# Altium footprint library lib_keystone.PcbLib: 1 footprints
Each footprint in its own frame and in the unit in brackets; x right, y up, seen from the top. Pads: shape width x height; smd on the part's side, far side on the other; paste and mask are expansions set on the pad; w line width, h text height; cw(c..) or ccw(c..) is an arc to the next point about the centre after c.
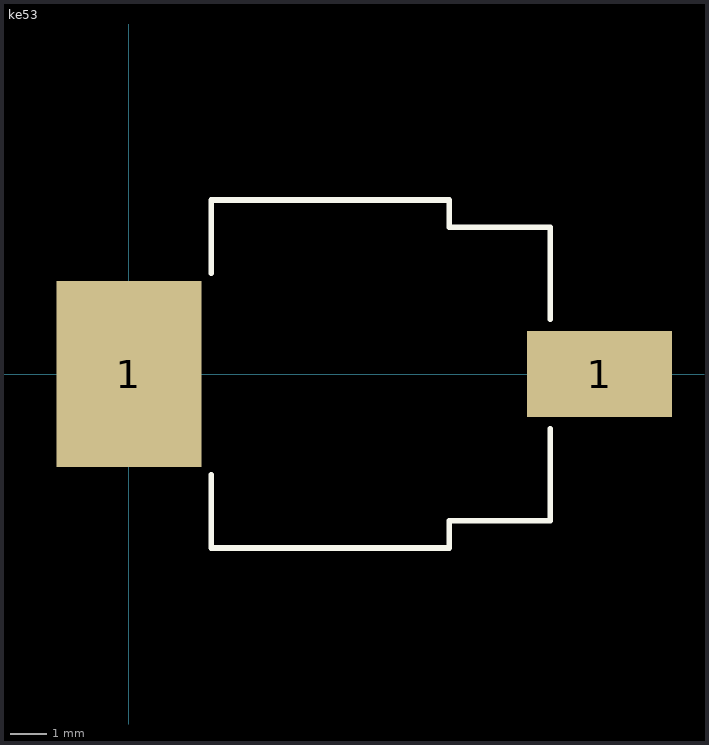
[diagram p0: the footprint, top view; thin cyan lines are the x and y axes]

## ke53 [mm]
pads (2):
  rect 3.96x5.08 smd: 1(0,0)
  rect 3.96x2.34 smd: 1(12.85,0)
Top Overlay:
  lines w0.152: 2.25,-2.75 2.25,-4.75 8.75,-4.75 8.75,-4 11.5,-4 11.5,-1.5 ; 2.25,2.75 2.25,4.75 8.75,4.75 8.75,4 11.5,4 11.5,1.5
3D body "keystone-PN53.STEP": height 15.64, standoff 0, extent -2,-6.655 14.796,6.655